# Altium schematic symbol library NSC Audio.SchLib: 691 symbols (part 3 of 18)
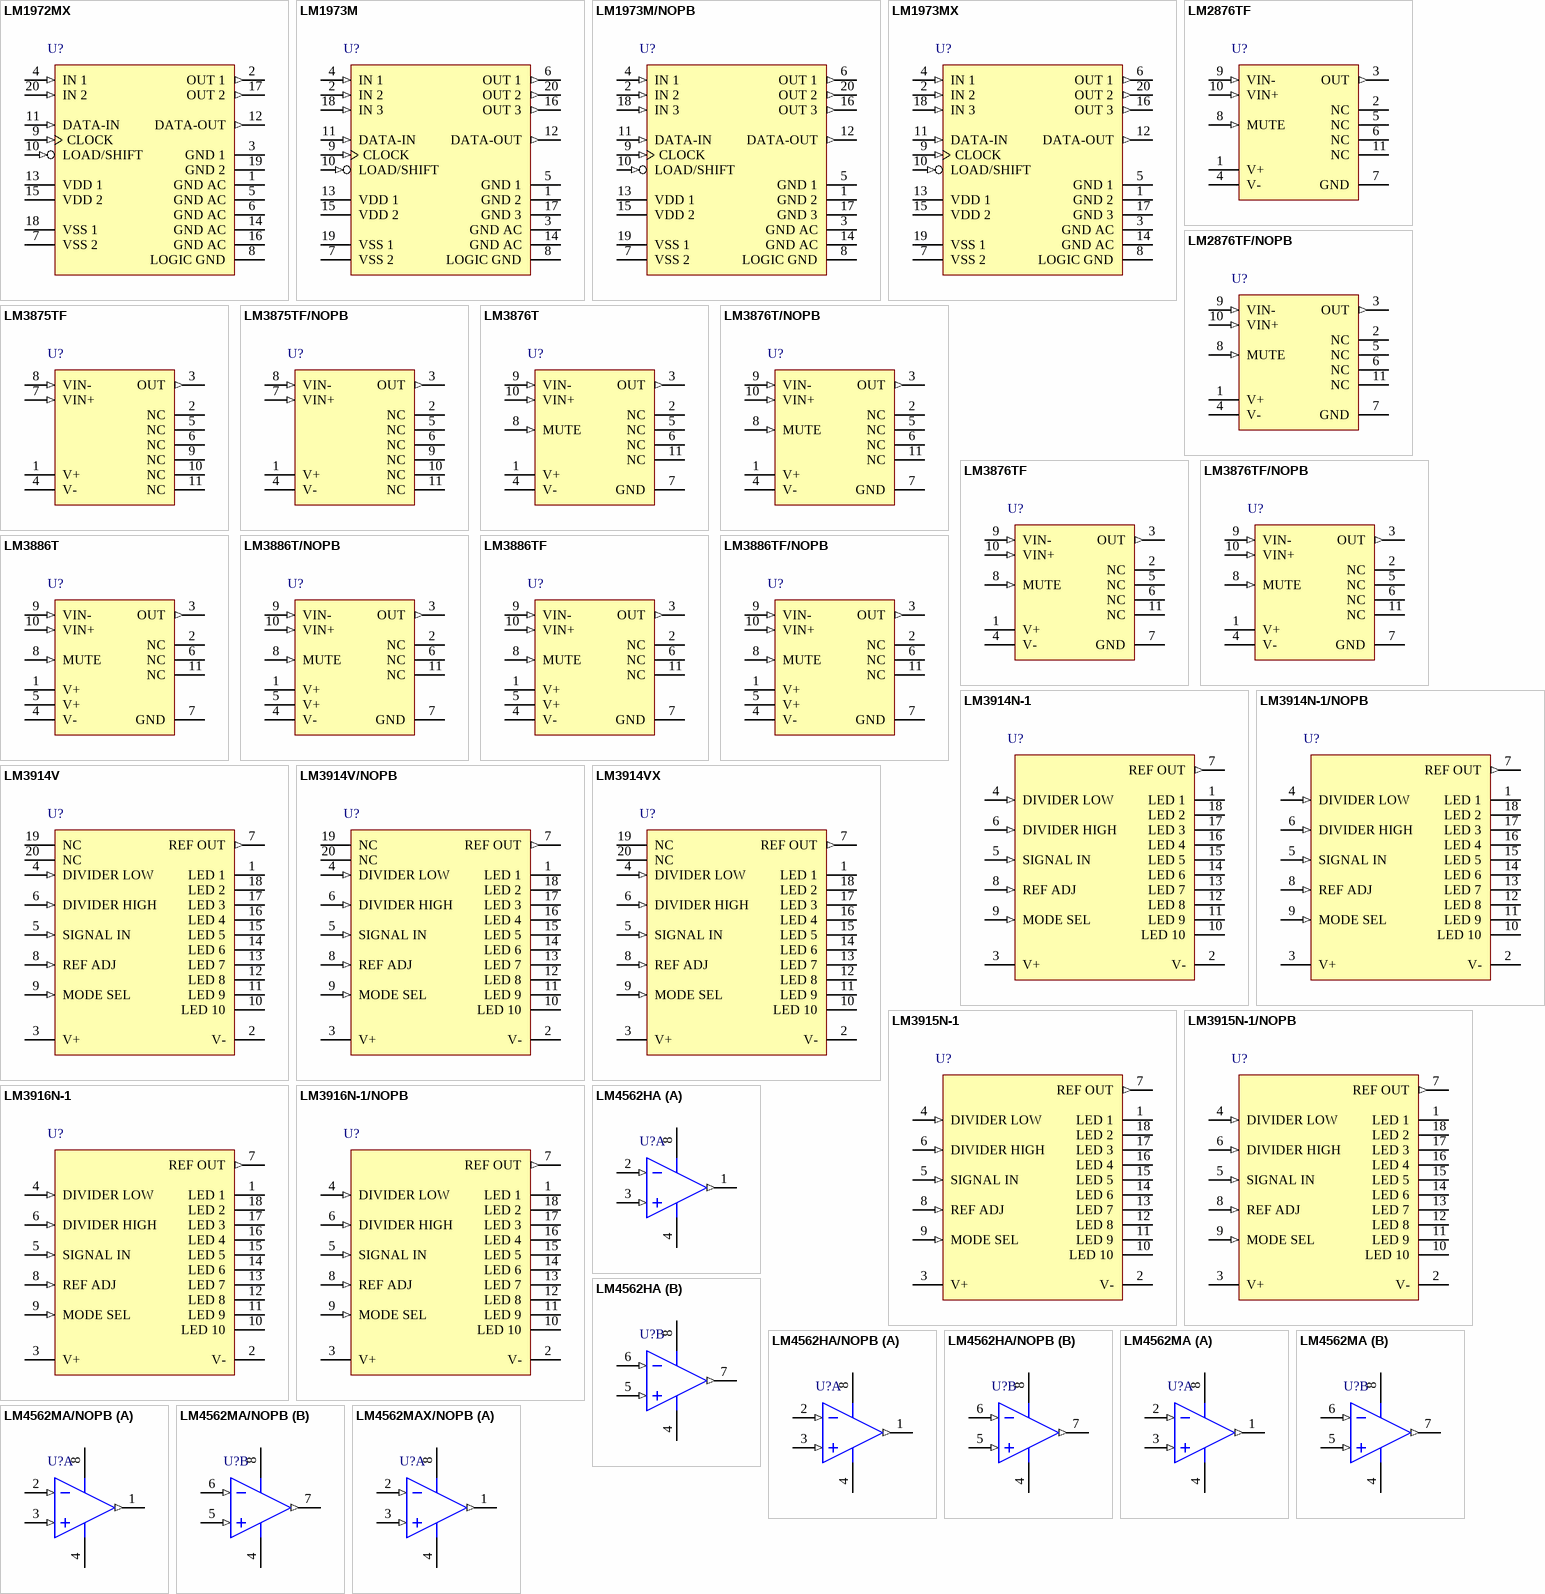
[diagram p29: symbols LM1972MX to LM4562MAX/NOPB]

## LM4562MA
designator U?
Dual High Performance, High Fidelity Audio Operational Amplifier, 8-pin Narrow SOIC; PartNumber: LM4562MA; Manufacturer: National Semiconductor; PackageTopMarking: NSZXTT*L4562*MA; PowerWise: Y; CompType: Audio IC; Published: 4-Dec-2008; LatestRevisionDate: 01-Mar-2010; LatestRevisionNote: Sch layout changed.; DatasheetVersion: Jan-2010; PackageVersion: revM, May-2009; PackageReference: M08A; Publisher: Altium Limited; PackageDescription: SOIC Narrow, 4.9 x 3.9 x 1.45mm, 8 Lead, 1.27mm Pitch; RoHS: Y; PinCount: 8; Code_JEDEC: MS-012-AA; Code_IPC: SOIC127P600-8; ComponentLink1Description: LM4562 Datasheet; ComponentLink1URL: http://www.national.com/ds/LM/LM4562.pdf; ComponentLink2Description: LM4562 Web Page; ComponentLink2URL: http://www.national.com/pf/LM/LM4562.html; ComponentLink3Description: M08A Package Page; ComponentLink3URL: http://www.national.com/packaging/folders/m08a.html
footprint M08A_N (SOIC, 8-Leads, Body 4.9x3.9mm, Pitch 1.27mm, IPC Medium Density)
footprint M08A_L (SOIC, 8-Leads, Body 4.9x3.9mm, Pitch 1.27mm, IPC High Density)
footprint M08A_M (SOIC, 8-Leads, Body 4.9x3.9mm, Pitch 1.27mm, IPC Low Density)
pins on every part: 4 V- (power), 8 V+ (power)
part A pins: 1 OUT A (out), 2 IN A (in), 3 IN A (in)
part B pins: 5 IN B (in), 6 IN B (in), 7 OUT B (out)

## LM4562MA/NOPB
designator U?
Dual High Performance, High Fidelity Audio Operational Amplifier, 8-pin Narrow SOIC, Pb-Free; PartNumber: LM4562MA/NOPB; Manufacturer: National Semiconductor; PackageTopMarking: NSZXTT*L4562*MA; PowerWise: Y; CompType: Audio IC; Published: 1-Mar-2010; DatasheetVersion: Jan-2010; PackageVersion: revM, May-2009; PackageReference: M08A; Publisher: Altium Limited; PackageDescription: SOIC Narrow, 4.9 x 3.9 x 1.45mm, 8 Lead, 1.27mm Pitch; Supplier 1: Digi-Key; Supplier Part Number 1: LM4562MA-ND; Supplier 2: Farnell; Supplier Part Number 2: 1685365; RoHS: Y; PinCount: 8; Code_JEDEC: MS-012-AA; Code_IPC: SOIC127P600-8; ComponentLink1Description: LM4562 Datasheet; ComponentLink1URL: http://www.national.com/ds/LM/LM4562.pdf; ComponentLink2Description: LM4562 Web Page; ComponentLink2URL: http://www.national.com/pf/LM/LM4562.html; ComponentLink3Description: M08A Package Page; ComponentLink3URL: http://www.national.com/packaging/folders/m08a.html
footprint M08A_N (SOIC, 8-Leads, Body 4.9x3.9mm, Pitch 1.27mm, IPC Medium Density)
footprint M08A_L (SOIC, 8-Leads, Body 4.9x3.9mm, Pitch 1.27mm, IPC High Density)
footprint M08A_M (SOIC, 8-Leads, Body 4.9x3.9mm, Pitch 1.27mm, IPC Low Density)
simulation model LME49860 (SUBCKT)
pins on every part: 4 V- (power), 8 V+ (power)
part A pins: 1 OUT A (out), 2 IN A (in), 3 IN A (in)
part B pins: 5 IN B (in), 6 IN B (in), 7 OUT B (out)

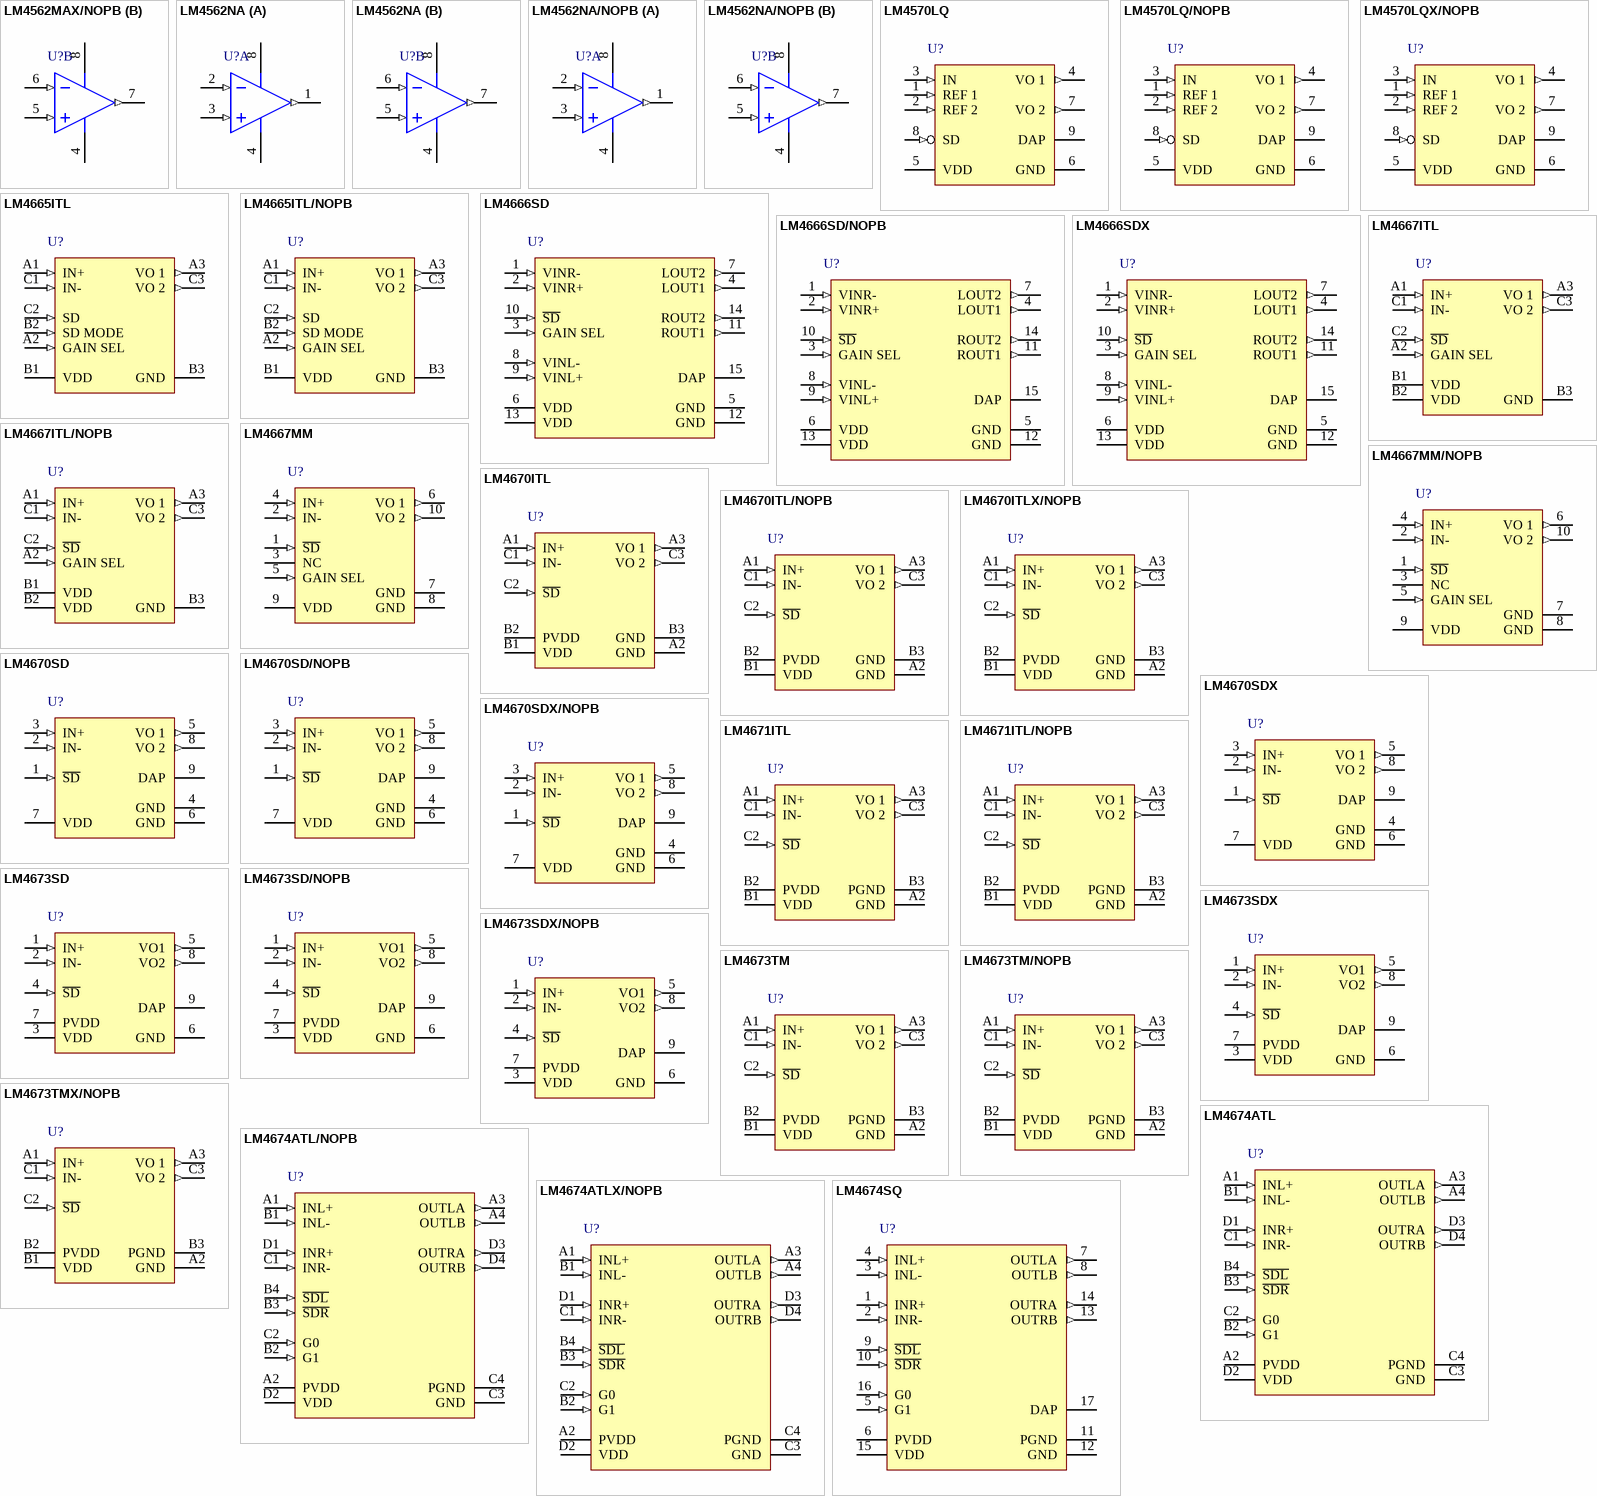
[diagram p3: symbols LM4562MAX/NOPB to LM4674SQ]

## LM4562MAX/NOPB
designator U?
Dual High Performance, High Fidelity Audio Operational Amplifier, 8-pin Narrow SOIC, Pb-Free; PartNumber: LM4562MAX/NOPB; Manufacturer: National Semiconductor; PackageTopMarking: NSZXTT*L4562*MA; PowerWise: Y; CompType: Audio IC; Published: 1-Mar-2010; DatasheetVersion: Jan-2010; PackageVersion: revM, May-2009; PackageReference: M08A; Publisher: Altium Limited; PackageDescription: SOIC Narrow, 4.9 x 3.9 x 1.45mm, 8 Lead, 1.27mm Pitch; Supplier 1: Digi-Key; Supplier Part Number 1: LM4562MAX-ND; RoHS: Y; PinCount: 8; Code_JEDEC: MS-012-AA; Code_IPC: SOIC127P600-8; ComponentLink1Description: LM4562 Datasheet; ComponentLink1URL: http://www.national.com/ds/LM/LM4562.pdf; ComponentLink2Description: LM4562 Web Page; ComponentLink2URL: http://www.national.com/pf/LM/LM4562.html; ComponentLink3Description: M08A Package Page; ComponentLink3URL: http://www.national.com/packaging/folders/m08a.html
footprint M08A_N (SOIC, 8-Leads, Body 4.9x3.9mm, Pitch 1.27mm, IPC Medium Density)
footprint M08A_L (SOIC, 8-Leads, Body 4.9x3.9mm, Pitch 1.27mm, IPC High Density)
footprint M08A_M (SOIC, 8-Leads, Body 4.9x3.9mm, Pitch 1.27mm, IPC Low Density)
simulation model LME49860 (SUBCKT)
pins on every part: 4 V- (power), 8 V+ (power)
part A pins: 1 OUT A (out), 2 IN A (in), 3 IN A (in)
part B pins: 5 IN B (in), 6 IN B (in), 7 OUT B (out)

## LM4562NA
designator U?
Dual High Performance, High Fidelity Audio Operational Amplifier, 8-pin MDIP; PartNumber: LM4562NA; Manufacturer: National Semiconductor; PackageTopMarking: NSUZXYTT*LM*4562NA; PowerWise: Y; CompType: Audio IC; Published: 4-Dec-2008; LatestRevisionDate: 01-Mar-2010; LatestRevisionNote: Sch layout changed.; DatasheetVersion: Jan-2010; PackageVersion: revG, May-2006; PackageReference: N08E; Publisher: Altium Limited; PackageDescription: MDIP, .365 x .250 x .130in, 8 Lead, .100in Pitch; RoHS: Y; PinCount: 8; Code_JEDEC: MS-001-BA; ComponentLink1Description: LM4562 Datasheet; ComponentLink1URL: http://www.national.com/ds/LM/LM4562.pdf; ComponentLink2Description: LM4562 Web Page; ComponentLink2URL: http://www.national.com/pf/LM/LM4562.html; ComponentLink3Description: N08E Package Page; ComponentLink3URL: http://www.national.com/packaging/folders/n08e.html
footprint N08E (DIP, 8-Leads, Row Spacing 7.62mm, Pitch 2.54mm, Body 9.91x6.35mm)
pins on every part: 4 V- (power), 8 V+ (power)
part A pins: 1 OUT A (out), 2 IN A (in), 3 IN A (in)
part B pins: 5 IN B (in), 6 IN B (in), 7 OUT B (out)

## LM4562NA/NOPB
designator U?
Dual High Performance, High Fidelity Audio Operational Amplifier, 8-pin MDIP, Pb-Free; PartNumber: LM4562NA/NOPB; Manufacturer: National Semiconductor; PackageTopMarking: NSUZXYTTE#*LM*4562NA; PowerWise: Y; CompType: Audio IC; Published: 1-Mar-2010; DatasheetVersion: Jan-2010; PackageVersion: revG, May-2006; PackageReference: N08E; Publisher: Altium Limited; PackageDescription: MDIP, .365 x .250 x .130in, 8 Lead, .100in Pitch; Supplier 1: Digi-Key; Supplier Part Number 1: LM4562NA-ND; Supplier 2: Farnell; Supplier Part Number 2: 1685366; RoHS: Y; PinCount: 8; Code_JEDEC: MS-001-BA; ComponentLink1Description: LM4562 Datasheet; ComponentLink1URL: http://www.national.com/ds/LM/LM4562.pdf; ComponentLink2Description: LM4562 Web Page; ComponentLink2URL: http://www.national.com/pf/LM/LM4562.html; ComponentLink3Description: N08E Package Page; ComponentLink3URL: http://www.national.com/packaging/folders/n08e.html
footprint N08E (DIP, 8-Leads, Row Spacing 7.62mm, Pitch 2.54mm, Body 9.91x6.35mm)
simulation model LME49860 (SUBCKT)
pins on every part: 4 V- (power), 8 V+ (power)
part A pins: 1 OUT A (out), 2 IN A (in), 3 IN A (in)
part B pins: 5 IN B (in), 6 IN B (in), 7 OUT B (out)

## LM4570LQ
designator U?
Single-Ended Input Motor Driver, 9-pin LLP; PartNumber: LM4570LQ; Manufacturer: National Semiconductor; PackageTopMarking: XTT*GC8; PowerWise: N; CompType: Audio IC; Published: 4-Dec-2008; DatasheetVersion: Jul-2009; PackageVersion: revB, Nov-2002; PackageReference: LQB08A; Publisher: Altium Limited; PackageDescription: LLP, Plastic, Quad, 2 x 2 x 0.75mm Body, 8 Lead, 0.65mm Pitch; RoHS: Y; PinCount: 8; ComponentLink1Description: LM4570 Datasheet; ComponentLink1URL: http://www.national.com/ds/LM/LM4570.pdf; ComponentLink2Description: LM4570 Web Page; ComponentLink2URL: http://www.national.com/pf/LM/LM4570.html; ComponentLink3Description: LQB08A Package Page; ComponentLink3URL: http://www.national.com/packaging/folders/lqb08a.html
footprint LQB08A (PQFN, 8-Leads, Body 2x2mm, Pitch 0.65mm, NSC Recommended)
pins: 1 REF 1 (in), 2 REF 2 (in), 3 IN (in), 4 VO 1 (out), 5 VDD (power), 6 GND (power), 7 VO 2 (out), 8 SD (in), 9 DAP (power)

## LM4570LQ/NOPB
designator U?
Single-Ended Input Motor Driver, 8-pin LLP, Pb-Free; PartNumber: LM4570LQ/NOPB; Manufacturer: National Semiconductor; PackageTopMarking: XTT*GC8; PowerWise: N; CompType: Audio IC; Published: 1-Mar-2010; DatasheetVersion: Jul-2009; PackageVersion: revB, Nov-2002; PackageReference: LQB08A; Publisher: Altium Limited; PackageDescription: LLP, Plastic, Quad, 2 x 2 x 0.75mm Body, 8 Lead, 0.65mm Pitch; Supplier 1: Digi-Key; Supplier Part Number 1: LM4570LQTR-ND; Supplier 2: Digi-Key; Supplier Part Number 2: LM4570LQCT-ND; Supplier 3: Digi-Key; Supplier Part Number 3: LM4570LQDKR-ND; RoHS: Y; PinCount: 8; ComponentLink1Description: LM4570 Datasheet; ComponentLink1URL: http://www.national.com/ds/LM/LM4570.pdf; ComponentLink2Description: LM4570 Web Page; ComponentLink2URL: http://www.national.com/pf/LM/LM4570.html; ComponentLink3Description: LQB08A Package Page; ComponentLink3URL: http://www.national.com/packaging/folders/lqb08a.html
footprint LQB08A (PQFN, 8-Leads, Body 2x2mm, Pitch 0.65mm, NSC Recommended)
pins: 1 REF 1 (in), 2 REF 2 (in), 3 IN (in), 4 VO 1 (out), 5 VDD (power), 6 GND (power), 7 VO 2 (out), 8 SD (in), 9 DAP (power)

## LM4570LQX/NOPB
designator U?
Single-Ended Input Motor Driver, 8-pin LLP, Pb-Free; PartNumber: LM4570LQX/NOPB; Manufacturer: National Semiconductor; PackageTopMarking: XTT*GC8; PowerWise: N; CompType: Audio IC; Published: 1-Mar-2010; DatasheetVersion: Jul-2009; PackageVersion: revB, Nov-2002; PackageReference: LQB08A; Publisher: Altium Limited; PackageDescription: LLP, Plastic, Quad, 2 x 2 x 0.75mm Body, 8 Lead, 0.65mm Pitch; Supplier 1: Digi-Key; Supplier Part Number 1: LM4570LQX-ND; RoHS: Y; PinCount: 8; ComponentLink1Description: LM4570 Datasheet; ComponentLink1URL: http://www.national.com/ds/LM/LM4570.pdf; ComponentLink2Description: LM4570 Web Page; ComponentLink2URL: http://www.national.com/pf/LM/LM4570.html; ComponentLink3Description: LQB08A Package Page; ComponentLink3URL: http://www.national.com/packaging/folders/lqb08a.html
footprint LQB08A (PQFN, 8-Leads, Body 2x2mm, Pitch 0.65mm, NSC Recommended)
pins: 1 REF 1 (in), 2 REF 2 (in), 3 IN (in), 4 VO 1 (out), 5 VDD (power), 6 GND (power), 7 VO 2 (out), 8 SD (in), 9 DAP (power)

## LM4665ITL
designator U?
Filterless High Efficiency 1W Switching Audio Amplifier, 9-pin Micro SMD; PartNumber: LM4665ITL; Manufacturer: National Semiconductor; PackageTopMarking: XVG*I A2; PowerWise: N; CompType: Audio IC; Published: 4-Dec-2008; DatasheetVersion: Dec-2002; PackageVersion: revC, Jan-2004; PackageReference: TLA09AAA; Publisher: Altium Limited; PackageDescription: Thin Micro SMD, 9 Bump (Large), 0.5mm Pitch; Supplier 1: Farnell; Supplier Part Number 1: 1286896; RoHS: Y; PinCount: 9; Code_JEDEC: MO-211-DD; ComponentLink1Description: LM4665 Datasheet; ComponentLink1URL: http://www.national.com/ds/LM/LM4665.pdf; ComponentLink2Description: LM4665 Web Page; ComponentLink2URL: http://www.national.com/pf/LM/LM4665.html; ComponentLink3Description: TLA09AAA Package Page; ComponentLink3URL: http://www.national.com/packaging/folders/tla09aaa.html
footprint TLA09AAA (Micro SMD, 9-Leads, Body 1.52x1.52mm, Pitch 0.5mm, NSC Recommended)
pins: A1 IN+ (in), A2 GAIN SEL (in), A3 VO 1 (out), B1 VDD (power), B2 SD MODE (in), B3 GND (power), C1 IN- (in), C2 SD (in), C3 VO 2 (out)

## LM4665ITL/NOPB
designator U?
Filterless High Efficiency 1W Switching Audio Amplifier, 9-pin Micro SMD, Pb-Free; PartNumber: LM4665ITL/NOPB; Manufacturer: National Semiconductor; PackageTopMarking: XVG*I A2; PowerWise: N; CompType: Audio IC; Published: 1-Mar-2010; DatasheetVersion: Dec-2002; PackageVersion: revC, Jan-2004; PackageReference: TLA09AAA; Publisher: Altium Limited; PackageDescription: Thin Micro SMD, 9 Bump (Large), 0.5mm Pitch; Supplier 1: Digi-Key; Supplier Part Number 1: LM4665ITLTR-ND; Supplier 2: Digi-Key; Supplier Part Number 2: LM4665ITLCT-ND; Supplier 3: Digi-Key; Supplier Part Number 3: LM4665ITLDKR-ND; RoHS: Y; PinCount: 9; Code_JEDEC: MO-211-DD; ComponentLink1Description: LM4665 Datasheet; ComponentLink1URL: http://www.national.com/ds/LM/LM4665.pdf; ComponentLink2Description: LM4665 Web Page; ComponentLink2URL: http://www.national.com/pf/LM/LM4665.html; ComponentLink3Description: TLA09AAA Package Page; ComponentLink3URL: http://www.national.com/packaging/folders/tla09aaa.html
footprint TLA09AAA (Micro SMD, 9-Leads, Body 1.52x1.52mm, Pitch 0.5mm, NSC Recommended)
pins: A1 IN+ (in), A2 GAIN SEL (in), A3 VO 1 (out), B1 VDD (power), B2 SD MODE (in), B3 GND (power), C1 IN- (in), C2 SD (in), C3 VO 2 (out)

## LM4666SD
designator U?
Filterless High Efficiency Stereo 1.2W Switching Audio Amplifier, 15-pin LLP; PartNumber: LM4666SD; Manufacturer: National Semiconductor; PackageTopMarking: ZXYTTE#*L4666; PowerWise: N; CompType: Audio IC; Published: 4-Dec-2008; DatasheetVersion: May-2004; PackageVersion: revA, Jun-2003; PackageReference: SDA14A; Publisher: Altium Limited; PackageDescription: LLP, Plastic, Dual, 4 x 3 x 0.8mm Body, 14 Lead, 0.5mm Pitch, No Pullback; Supplier 1: Digi-Key; Supplier Part Number 1: LM4666SDTR-ND; Supplier 2: Digi-Key; Supplier Part Number 2: LM4666SDCT-ND; Supplier 3: Digi-Key; Supplier Part Number 3: LM4666SDDKR-ND; RoHS: N; PinCount: 14; ComponentLink1Description: LM4666 Datasheet; ComponentLink1URL: http://www.national.com/ds/LM/LM4666.pdf; ComponentLink2Description: LM4666 Web Page; ComponentLink2URL: http://www.national.com/pf/LM/LM4666.html; ComponentLink3Description: SDA14A Package Page; ComponentLink3URL: http://www.national.com/packaging/folders/sda14a.html
footprint SDA14A (SON, 14-Leads, Body 4x3mm, Pitch 0.5mm, NSC Recommended)
pins: 1 VINR- (in), 2 VINR+ (in), 3 GAIN SEL (in), 4 LOUT1 (out), 5 GND (power), 6 VDD (power), 7 LOUT2 (out), 8 VINL- (in), 9 VINL+ (in), 10 ~{SD} (in), 11 ROUT1 (out), 12 GND (power), 13 VDD (power), 14 ROUT2 (out), 15 DAP (power)

## LM4666SD/NOPB
designator U?
Filterless High Efficiency Stereo 1.2W Switching Audio Amplifier, 14-pin LLP, Pb-Free; PartNumber: LM4666SD/NOPB; Manufacturer: National Semiconductor; PackageTopMarking: ZXYTTE#*L4666; PowerWise: N; CompType: Audio IC; Published: 1-Mar-2010; DatasheetVersion: May-2004; PackageVersion: revA, Jun-2003; PackageReference: SDA14A; Publisher: Altium Limited; PackageDescription: LLP, Plastic, Dual, 4 x 3 x 0.8mm Body, 14 Lead, 0.5mm Pitch, No Pullback; RoHS: Y; PinCount: 14; ComponentLink1Description: LM4666 Datasheet; ComponentLink1URL: http://www.national.com/ds/LM/LM4666.pdf; ComponentLink2Description: LM4666 Web Page; ComponentLink2URL: http://www.national.com/pf/LM/LM4666.html; ComponentLink3Description: SDA14A Package Page; ComponentLink3URL: http://www.national.com/packaging/folders/sda14a.html
footprint SDA14A (SON, 14-Leads, Body 4x3mm, Pitch 0.5mm, NSC Recommended)
pins: 1 VINR- (in), 2 VINR+ (in), 3 GAIN SEL (in), 4 LOUT1 (out), 5 GND (power), 6 VDD (power), 7 LOUT2 (out), 8 VINL- (in), 9 VINL+ (in), 10 ~{SD} (in), 11 ROUT1 (out), 12 GND (power), 13 VDD (power), 14 ROUT2 (out), 15 DAP (power)

## LM4666SDX
designator U?
Filterless High Efficiency Stereo 1.2W Switching Audio Amplifier, 14-pin LLP; PartNumber: LM4666SDX; Manufacturer: National Semiconductor; PowerWise: N; CompType: Audio IC; Published: 1-Mar-2010; DatasheetVersion: May-2004; PackageVersion: revA, Jun-2003; PackageReference: SDA14A; Publisher: Altium Limited; PackageDescription: LLP, Plastic, Dual, 4 x 3 x 0.8mm Body, 14 Lead, 0.5mm Pitch, No Pullback; RoHS: N; PinCount: 14; ComponentLink1Description: LM4666 Datasheet; ComponentLink1URL: http://www.national.com/ds/LM/LM4666.pdf; ComponentLink2Description: LM4666 Web Page; ComponentLink2URL: http://www.national.com/pf/LM/LM4666.html; ComponentLink3Description: SDA14A Package Page; ComponentLink3URL: http://www.national.com/packaging/folders/sda14a.html
footprint SDA14A (SON, 14-Leads, Body 4x3mm, Pitch 0.5mm, NSC Recommended)
pins: 1 VINR- (in), 2 VINR+ (in), 3 GAIN SEL (in), 4 LOUT1 (out), 5 GND (power), 6 VDD (power), 7 LOUT2 (out), 8 VINL- (in), 9 VINL+ (in), 10 ~{SD} (in), 11 ROUT1 (out), 12 GND (power), 13 VDD (power), 14 ROUT2 (out), 15 DAP (power)

## LM4667ITL
designator U?
Filterless High Efficiency 1.3W Switching Audio Amplifier, 9-pin Micro SMD; PartNumber: LM4667ITL; Manufacturer: National Semiconductor; PackageTopMarking: XVG*I B4; PowerWise: N; CompType: Audio IC; Published: 4-Dec-2008; DatasheetVersion: Sep-2004; PackageVersion: revC, Jan-2004; PackageReference: TLA09AAA; Publisher: Altium Limited; PackageDescription: Thin Micro SMD, 9 Bump (Large), 0.5mm Pitch; Supplier 1: Farnell; Supplier Part Number 1: 8238871; RoHS: N; PinCount: 9; Code_JEDEC: MO-211-DD; ComponentLink1Description: LM4667 Datasheet; ComponentLink1URL: http://www.national.com/ds/LM/LM4667.pdf; ComponentLink2Description: LM4667 Web Page; ComponentLink2URL: http://www.national.com/pf/LM/LM4667.html; ComponentLink3Description: TLA09AAA Package Page; ComponentLink3URL: http://www.national.com/packaging/folders/tla09aaa.html
footprint TLA09AAA (Micro SMD, 9-Leads, Body 1.52x1.52mm, Pitch 0.5mm, NSC Recommended)
pins: A1 IN+ (in), A2 GAIN SEL (in), A3 VO 1 (out), B1 VDD (power), B2 VDD (power), B3 GND (power), C1 IN- (in), C2 ~{SD} (in), C3 VO 2 (out)

## LM4667ITL/NOPB
designator U?
Filterless High Efficiency 1.3W Switching Audio Amplifier, 9-pin Micro SMD, Pb-Free; PartNumber: LM4667ITL/NOPB; Manufacturer: National Semiconductor; PackageTopMarking: XVG*I B4; PowerWise: N; CompType: Audio IC; Published: 1-Mar-2010; DatasheetVersion: Sep-2004; PackageVersion: revC, Jan-2004; PackageReference: TLA09AAA; Publisher: Altium Limited; PackageDescription: Thin Micro SMD, 9 Bump (Large), 0.5mm Pitch; Supplier 1: Digi-Key; Supplier Part Number 1: LM4667ITLTR-ND; Supplier 2: Digi-Key; Supplier Part Number 2: LM4667ITLCT-ND; Supplier 3: Digi-Key; Supplier Part Number 3: LM4667ITLDKR-ND; RoHS: Y; PinCount: 9; Code_JEDEC: MO-211-DD; ComponentLink1Description: LM4667 Datasheet; ComponentLink1URL: http://www.national.com/ds/LM/LM4667.pdf; ComponentLink2Description: LM4667 Web Page; ComponentLink2URL: http://www.national.com/pf/LM/LM4667.html; ComponentLink3Description: TLA09AAA Package Page; ComponentLink3URL: http://www.national.com/packaging/folders/tla09aaa.html
footprint TLA09AAA (Micro SMD, 9-Leads, Body 1.52x1.52mm, Pitch 0.5mm, NSC Recommended)
pins: A1 IN+ (in), A2 GAIN SEL (in), A3 VO 1 (out), B1 VDD (power), B2 VDD (power), B3 GND (power), C1 IN- (in), C2 ~{SD} (in), C3 VO 2 (out)

## LM4667MM
designator U?
Filterless High Efficiency 1.3W Switching Audio Amplifier, 10-pin MSOP; PartNumber: LM4667MM; Manufacturer: National Semiconductor; PackageTopMarking: ZXTT*GA6; PowerWise: N; CompType: Audio IC; Published: 4-Dec-2008; DatasheetVersion: Sep-2004; PackageVersion: revB, Jul-2003; PackageReference: MUB10A; Publisher: Altium Limited; PackageDescription: Mini-SO, Molded, .118 x .118 x .034in Body, 10 Lead, .0197in Pitch; Supplier 1: Farnell; Supplier Part Number 1: 8181080; RoHS: N; PinCount: 10; Code_JEDEC: MO-187-BA; ComponentLink1Description: LM4667 Datasheet; ComponentLink1URL: http://www.national.com/ds/LM/LM4667.pdf; ComponentLink2Description: LM4667 Web Page; ComponentLink2URL: http://www.national.com/pf/LM/LM4667.html; ComponentLink3Description: MUB10A Package Page; ComponentLink3URL: http://www.national.com/packaging/folders/mub10a.html
footprint MUB10A_N (TSSOP, 10-Leads, Body 3x3mm, Pitch 0.5mm, IPC Medium Density)
footprint MUB10A_L (TSSOP, 10-Leads, Body 3x3mm, Pitch 0.5mm, IPC High Density)
footprint MUB10A_M (TSSOP, 10-Leads, Body 3x3mm, Pitch 0.5mm, IPC Low Density)
pins: 1 ~{SD} (in), 2 IN- (in), 3 NC, 4 IN+ (in), 5 GAIN SEL (in), 6 VO 1 (out), 7 GND (power), 8 GND (power), 9 VDD (power), 10 VO 2 (out)

## LM4667MM/NOPB
designator U?
Filterless High Efficiency 1.3W Switching Audio Amplifier, 10-pin Mini SOIC, Pb-Free; PartNumber: LM4667MM/NOPB; Manufacturer: National Semiconductor; PackageTopMarking: ZXTT*GA6; PowerWise: N; CompType: Audio IC; Published: 1-Mar-2010; DatasheetVersion: Sep-2004; PackageVersion: revB, Jul-2003; PackageReference: MUB10A; Publisher: Altium Limited; PackageDescription: Mini-SO, Molded, .118 x .118 x .034in Body, 10 Lead, .0197in Pitch; Supplier 1: Digi-Key; Supplier Part Number 1: LM4667MMTR-ND; Supplier 2: Digi-Key; Supplier Part Number 2: LM4667MMCT-ND; Supplier 3: Digi-Key; Supplier Part Number 3: LM4667MMDKR-ND; RoHS: Y; PinCount: 10; Code_JEDEC: MO-187-BA; ComponentLink1Description: LM4667 Datasheet; ComponentLink1URL: http://www.national.com/ds/LM/LM4667.pdf; ComponentLink2Description: LM4667 Web Page; ComponentLink2URL: http://www.national.com/pf/LM/LM4667.html; ComponentLink3Description: MUB10A Package Page; ComponentLink3URL: http://www.national.com/packaging/folders/mub10a.html
footprint MUB10A_N (TSSOP, 10-Leads, Body 3x3mm, Pitch 0.5mm, IPC Medium Density)
footprint MUB10A_L (TSSOP, 10-Leads, Body 3x3mm, Pitch 0.5mm, IPC High Density)
footprint MUB10A_M (TSSOP, 10-Leads, Body 3x3mm, Pitch 0.5mm, IPC Low Density)
pins: 1 ~{SD} (in), 2 IN- (in), 3 NC, 4 IN+ (in), 5 GAIN SEL (in), 6 VO 1 (out), 7 GND (power), 8 GND (power), 9 VDD (power), 10 VO 2 (out)

## LM4670ITL
designator U?
Filterless High Efficiency 3W Switching Audio Amplifier, 9-pin Micro SMD; PartNumber: LM4670ITL; Manufacturer: National Semiconductor; PackageTopMarking: XVG*I E6; PowerWise: N; CompType: Audio IC; Published: 4-Dec-2008; DatasheetVersion: Jul-2006; PackageVersion: revC, Jan-2004; PackageReference: TLA09ZZA; Publisher: Altium Limited; PackageDescription: Thin Micro SMD, 9 Bump (Large), 0.5mm Pitch; Supplier 1: Digi-Key; Supplier Part Number 1: LM4670ITL-ND; Supplier 2: Farnell; Supplier Part Number 2: 1286809; RoHS: Y; PinCount: 9; Code_JEDEC: MO-211-DD; ComponentLink1Description: LM4670 Datasheet; ComponentLink1URL: http://www.national.com/ds/LM/LM4670.pdf; ComponentLink2Description: LM4670 Web Page; ComponentLink2URL: http://www.national.com/pf/LM/LM4670.html; ComponentLink3Description: TLA09ZZA Package Page; ComponentLink3URL: http://www.national.com/packaging/folders/tla09zza.html
footprint TLA09ZZA (Micro SMD, 9-Leads, Body 1.47x1.47mm, Pitch 0.5mm, NSC Recommended)
pins: A1 IN+ (in), A2 GND (power), A3 VO 1 (out), B1 VDD (power), B2 PVDD (power), B3 GND (power), C1 IN- (in), C2 ~{SD} (in), C3 VO 2 (out)

## LM4670ITL/NOPB
designator U?
Filterless High Efficiency 3W Switching Audio Amplifier, 9-pin Micro SMD, Pb-Free; PartNumber: LM4670ITL/NOPB; Manufacturer: National Semiconductor; PackageTopMarking: XVG*I E6; PowerWise: N; CompType: Audio IC; Published: 1-Mar-2010; DatasheetVersion: Jul-2006; PackageVersion: revC, Jan-2004; PackageReference: TLA09ZZA; Publisher: Altium Limited; PackageDescription: Thin Micro SMD, 9 Bump (Large), 0.5mm Pitch; Supplier 1: Digi-Key; Supplier Part Number 1: LM4670ITL/NOPB-ND; RoHS: Y; PinCount: 9; Code_JEDEC: MO-211-DD; ComponentLink1Description: LM4670 Datasheet; ComponentLink1URL: http://www.national.com/ds/LM/LM4670.pdf; ComponentLink2Description: LM4670 Web Page; ComponentLink2URL: http://www.national.com/pf/LM/LM4670.html; ComponentLink3Description: TLA09ZZA Package Page; ComponentLink3URL: http://www.national.com/packaging/folders/tla09zza.html
footprint TLA09ZZA (Micro SMD, 9-Leads, Body 1.47x1.47mm, Pitch 0.5mm, NSC Recommended)
pins: A1 IN+ (in), A2 GND (power), A3 VO 1 (out), B1 VDD (power), B2 PVDD (power), B3 GND (power), C1 IN- (in), C2 ~{SD} (in), C3 VO 2 (out)

## LM4670ITLX/NOPB
designator U?
Filterless High Efficiency 3W Switching Audio Amplifier, 9-pin Micro SMD, Pb-Free; PartNumber: LM4670ITLX/NOPB; Manufacturer: National Semiconductor; PackageTopMarking: XVG*I E6; PowerWise: N; CompType: Audio IC; Published: 1-Mar-2010; DatasheetVersion: Jul-2006; PackageVersion: revC, Jan-2004; PackageReference: TLA09ZZA; Publisher: Altium Limited; PackageDescription: Thin Micro SMD, 9 Bump (Large), 0.5mm Pitch; Supplier 1: Digi-Key; Supplier Part Number 1: LM4670ITLX/NOPBTR-ND; Supplier 2: Digi-Key; Supplier Part Number 2: LM4670ITLX/NOPBCT-ND; RoHS: Y; PinCount: 9; Code_JEDEC: MO-211-DD; ComponentLink1Description: LM4670 Datasheet; ComponentLink1URL: http://www.national.com/ds/LM/LM4670.pdf; ComponentLink2Description: LM4670 Web Page; ComponentLink2URL: http://www.national.com/pf/LM/LM4670.html; ComponentLink3Description: TLA09ZZA Package Page; ComponentLink3URL: http://www.national.com/packaging/folders/tla09zza.html
footprint TLA09ZZA (Micro SMD, 9-Leads, Body 1.47x1.47mm, Pitch 0.5mm, NSC Recommended)
pins: A1 IN+ (in), A2 GND (power), A3 VO 1 (out), B1 VDD (power), B2 PVDD (power), B3 GND (power), C1 IN- (in), C2 ~{SD} (in), C3 VO 2 (out)

## LM4670SD
designator U?
Filterless High Efficiency 3W Switching Audio Amplifier, 9-pin LLP; PartNumber: LM4670SD; Manufacturer: National Semiconductor; PackageTopMarking: ZXYTT*L4670; PowerWise: N; CompType: Audio IC; Published: 4-Dec-2008; DatasheetVersion: Jul-2006; PackageVersion: revA, Aug-2003; PackageReference: SDA08A; Publisher: Altium Limited; PackageDescription: LLP, Plastic, Dual, 3 x 3 x 0.8mm Body, 8 Lead, 0.5mm Pitch, No Pullback; Supplier 1: Farnell; Supplier Part Number 1: 1312668; RoHS: N; PinCount: 8; ComponentLink1Description: LM4670 Datasheet; ComponentLink1URL: http://www.national.com/ds/LM/LM4670.pdf; ComponentLink2Description: LM4670 Web Page; ComponentLink2URL: http://www.national.com/pf/LM/LM4670.html; ComponentLink3Description: SDA08A Package Page; ComponentLink3URL: http://www.national.com/packaging/folders/sda08a.html
footprint SDA08A (SON, 8-Leads, Body 3x3mm, Pitch 0.5mm, NSC Recommended)
pins: 1 ~{SD} (in), 2 IN- (in), 3 IN+ (in), 4 GND (power), 5 VO 1 (out), 6 GND (power), 7 VDD (power), 8 VO 2 (out), 9 DAP (power)

## LM4670SD/NOPB
designator U?
Filterless High Efficiency 3W Switching Audio Amplifier, 8-pin LLP, Pb-Free; PartNumber: LM4670SD/NOPB; Manufacturer: National Semiconductor; PackageTopMarking: ZXYTT*L4670; PowerWise: N; CompType: Audio IC; Published: 1-Mar-2010; DatasheetVersion: Jul-2006; PackageVersion: revA, Aug-2003; PackageReference: SDA08A; Publisher: Altium Limited; PackageDescription: LLP, Plastic, Dual, 3 x 3 x 0.8mm Body, 8 Lead, 0.5mm Pitch, No Pullback; Supplier 1: Digi-Key; Supplier Part Number 1: LM4670SD-ND; RoHS: Y; PinCount: 8; ComponentLink1Description: LM4670 Datasheet; ComponentLink1URL: http://www.national.com/ds/LM/LM4670.pdf; ComponentLink2Description: LM4670 Web Page; ComponentLink2URL: http://www.national.com/pf/LM/LM4670.html; ComponentLink3Description: SDA08A Package Page; ComponentLink3URL: http://www.national.com/packaging/folders/sda08a.html
footprint SDA08A (SON, 8-Leads, Body 3x3mm, Pitch 0.5mm, NSC Recommended)
pins: 1 ~{SD} (in), 2 IN- (in), 3 IN+ (in), 4 GND (power), 5 VO 1 (out), 6 GND (power), 7 VDD (power), 8 VO 2 (out), 9 DAP (power)

## LM4670SDX
designator U?
Filterless High Efficiency 3W Switching Audio Amplifier, 8-pin LLP; PartNumber: LM4670SDX; Manufacturer: National Semiconductor; PackageTopMarking: ZXYTT*L4670; PowerWise: N; CompType: Audio IC; Published: 1-Mar-2010; DatasheetVersion: Jul-2006; PackageVersion: revA, Aug-2003; PackageReference: SDA08A; Publisher: Altium Limited; PackageDescription: LLP, Plastic, Dual, 3 x 3 x 0.8mm Body, 8 Lead, 0.5mm Pitch, No Pullback; RoHS: N; PinCount: 8; ComponentLink1Description: LM4670 Datasheet; ComponentLink1URL: http://www.national.com/ds/LM/LM4670.pdf; ComponentLink2Description: LM4670 Web Page; ComponentLink2URL: http://www.national.com/pf/LM/LM4670.html; ComponentLink3Description: SDA08A Package Page; ComponentLink3URL: http://www.national.com/packaging/folders/sda08a.html
footprint SDA08A (SON, 8-Leads, Body 3x3mm, Pitch 0.5mm, NSC Recommended)
pins: 1 ~{SD} (in), 2 IN- (in), 3 IN+ (in), 4 GND (power), 5 VO 1 (out), 6 GND (power), 7 VDD (power), 8 VO 2 (out), 9 DAP (power)

## LM4670SDX/NOPB
designator U?
Filterless High Efficiency 3W Switching Audio Amplifier, 8-pin LLP, Pb-Free; PartNumber: LM4670SDX/NOPB; Manufacturer: National Semiconductor; PackageTopMarking: ZXYTT*L4670; PowerWise: N; CompType: Audio IC; Published: 1-Mar-2010; DatasheetVersion: Jul-2006; PackageVersion: revA, Aug-2003; PackageReference: SDA08A; Publisher: Altium Limited; PackageDescription: LLP, Plastic, Dual, 3 x 3 x 0.8mm Body, 8 Lead, 0.5mm Pitch, No Pullback; Supplier 1: Digi-Key; Supplier Part Number 1: LM4670SDX-ND; RoHS: Y; PinCount: 8; ComponentLink1Description: LM4670 Datasheet; ComponentLink1URL: http://www.national.com/ds/LM/LM4670.pdf; ComponentLink2Description: LM4670 Web Page; ComponentLink2URL: http://www.national.com/pf/LM/LM4670.html; ComponentLink3Description: SDA08A Package Page; ComponentLink3URL: http://www.national.com/packaging/folders/sda08a.html
footprint SDA08A (SON, 8-Leads, Body 3x3mm, Pitch 0.5mm, NSC Recommended)
pins: 1 ~{SD} (in), 2 IN- (in), 3 IN+ (in), 4 GND (power), 5 VO 1 (out), 6 GND (power), 7 VDD (power), 8 VO 2 (out), 9 DAP (power)

## LM4671ITL
designator U?
Filterless High Efficiency 2.5W Switching Audio Amplifier, 9-pin Micro SMD; PartNumber: LM4671ITL; Manufacturer: National Semiconductor; PackageTopMarking: XVG*I E7; PowerWise: N; CompType: Audio IC; Published: 4-Dec-2008; DatasheetVersion: Mar-2008; PackageVersion: revC, Jan-2004; PackageReference: TLA09AAA; Publisher: Altium Limited; PackageDescription: Thin Micro SMD, 9 Bump (Large), 0.5mm Pitch; Supplier 1: Farnell; Supplier Part Number 1: 1008016; RoHS: Y; PinCount: 9; Code_JEDEC: MO-211-DD; ComponentLink1Description: LM4671 Datasheet; ComponentLink1URL: http://www.national.com/ds/LM/LM4671.pdf; ComponentLink2Description: LM4671 Web Page; ComponentLink2URL: http://www.national.com/pf/LM/LM4671.html; ComponentLink3Description: TLA09AAA Package Page; ComponentLink3URL: http://www.national.com/packaging/folders/tla09aaa.html
footprint TLA09AAA (Micro SMD, 9-Leads, Body 1.52x1.52mm, Pitch 0.5mm, NSC Recommended)
pins: A1 IN+ (in), A2 GND (power), A3 VO 1 (out), B1 VDD (power), B2 PVDD (power), B3 PGND (power), C1 IN- (in), C2 ~{SD} (in), C3 VO 2 (out)

## LM4671ITL/NOPB
designator U?
Filterless High Efficiency 2.5W Switching Audio Amplifier, 9-pin Micro SMD, Pb-Free; PartNumber: LM4671ITL/NOPB; Manufacturer: National Semiconductor; PackageTopMarking: XVG*I E7; PowerWise: N; CompType: Audio IC; Published: 1-Mar-2010; DatasheetVersion: Mar-2008; PackageVersion: revC, Jan-2004; PackageReference: TLA09AAA; Publisher: Altium Limited; PackageDescription: Thin Micro SMD, 9 Bump (Large), 0.5mm Pitch; Supplier 1: Digi-Key; Supplier Part Number 1: LM4671ITL-ND; RoHS: Y; PinCount: 9; Code_JEDEC: MO-211-DD; ComponentLink1Description: LM4671 Datasheet; ComponentLink1URL: http://www.national.com/ds/LM/LM4671.pdf; ComponentLink2Description: LM4671 Web Page; ComponentLink2URL: http://www.national.com/pf/LM/LM4671.html; ComponentLink3Description: TLA09AAA Package Page; ComponentLink3URL: http://www.national.com/packaging/folders/tla09aaa.html
footprint TLA09AAA (Micro SMD, 9-Leads, Body 1.52x1.52mm, Pitch 0.5mm, NSC Recommended)
pins: A1 IN+ (in), A2 GND (power), A3 VO 1 (out), B1 VDD (power), B2 PVDD (power), B3 PGND (power), C1 IN- (in), C2 ~{SD} (in), C3 VO 2 (out)

## LM4673SD
designator U?
Filterless, 2.65W, Mono, Class D Audio Power Amplifier, 9-pin LLP; PartNumber: LM4673SD; Manufacturer: National Semiconductor; PackageTopMarking: ZXYTT*L4673; PowerWise: Y; CompType: Audio IC; Published: 4-Dec-2008; DatasheetVersion: Nov-2007; PackageVersion: revA, Aug-2003; PackageReference: SDA08A; Publisher: Altium Limited; PackageDescription: LLP, Plastic, Dual, 3 x 3 x 0.8mm Body, 8 Lead, 0.5mm Pitch, No Pullback; Supplier 1: Farnell; Supplier Part Number 1: 1312767; RoHS: N; PinCount: 8; ComponentLink1Description: LM4673 Datasheet; ComponentLink1URL: http://www.national.com/ds/LM/LM4673.pdf; ComponentLink2Description: LM4673 Web Page; ComponentLink2URL: http://www.national.com/pf/LM/LM4673.html; ComponentLink3Description: SDA08A Package Page; ComponentLink3URL: http://www.national.com/packaging/folders/sda08a.html
footprint SDA08A (SON, 8-Leads, Body 3x3mm, Pitch 0.5mm, NSC Recommended)
pins: 1 IN+ (in), 2 IN- (in), 3 VDD (power), 4 ~{SD} (in), 5 VO1 (out), 6 GND (power), 7 PVDD (power), 8 VO2 (out), 9 DAP (power)

## LM4673SD/NOPB
designator U?
Filterless, 2.65W, Mono, Class D Audio Power Amplifier, 8-pin LLP, Pb-Free; PartNumber: LM4673SD/NOPB; Manufacturer: National Semiconductor; PackageTopMarking: ZXYTT*L4673; PowerWise: Y; CompType: Audio IC; Published: 1-Mar-2010; DatasheetVersion: Nov-2007; PackageVersion: revA, Aug-2003; PackageReference: SDA08A; Publisher: Altium Limited; PackageDescription: LLP, Plastic, Dual, 3 x 3 x 0.8mm Body, 8 Lead, 0.5mm Pitch, No Pullback; Supplier 1: Digi-Key; Supplier Part Number 1: LM4673SDTR-ND; Supplier 2: Digi-Key; Supplier Part Number 2: LM4673SDCT-ND; Supplier 3: Digi-Key; Supplier Part Number 3: LM4673SDDKR-ND; Supplier 4: Farnell; Supplier Part Number 4: 1694397; RoHS: Y; PinCount: 8; ComponentLink1Description: LM4673 Datasheet; ComponentLink1URL: http://www.national.com/ds/LM/LM4673.pdf; ComponentLink2Description: LM4673 Web Page; ComponentLink2URL: http://www.national.com/pf/LM/LM4673.html; ComponentLink3Description: SDA08A Package Page; ComponentLink3URL: http://www.national.com/packaging/folders/sda08a.html
footprint SDA08A (SON, 8-Leads, Body 3x3mm, Pitch 0.5mm, NSC Recommended)
pins: 1 IN+ (in), 2 IN- (in), 3 VDD (power), 4 ~{SD} (in), 5 VO1 (out), 6 GND (power), 7 PVDD (power), 8 VO2 (out), 9 DAP (power)

## LM4673SDX
designator U?
Filterless, 2.65W, Mono, Class D Audio Power Amplifier, 8-pin LLP; PartNumber: LM4673SDX; Manufacturer: National Semiconductor; PackageTopMarking: ZXYTT*L4673; PowerWise: Y; CompType: Audio IC; Published: 1-Mar-2010; DatasheetVersion: Nov-2007; PackageVersion: revA, Aug-2003; PackageReference: SDA08A; Publisher: Altium Limited; PackageDescription: LLP, Plastic, Dual, 3 x 3 x 0.8mm Body, 8 Lead, 0.5mm Pitch, No Pullback; RoHS: N; PinCount: 8; ComponentLink1Description: LM4673 Datasheet; ComponentLink1URL: http://www.national.com/ds/LM/LM4673.pdf; ComponentLink2Description: LM4673 Web Page; ComponentLink2URL: http://www.national.com/pf/LM/LM4673.html; ComponentLink3Description: SDA08A Package Page; ComponentLink3URL: http://www.national.com/packaging/folders/sda08a.html
footprint SDA08A (SON, 8-Leads, Body 3x3mm, Pitch 0.5mm, NSC Recommended)
pins: 1 IN+ (in), 2 IN- (in), 3 VDD (power), 4 ~{SD} (in), 5 VO1 (out), 6 GND (power), 7 PVDD (power), 8 VO2 (out), 9 DAP (power)

## LM4673SDX/NOPB
designator U?
Filterless, 2.65W, Mono, Class D Audio Power Amplifier, 8-pin LLP, Pb-Free; PartNumber: LM4673SDX/NOPB; Manufacturer: National Semiconductor; PackageTopMarking: ZXYTT*L4673; PowerWise: Y; CompType: Audio IC; Published: 1-Mar-2010; DatasheetVersion: Nov-2007; PackageVersion: revA, Aug-2003; PackageReference: SDA08A; Publisher: Altium Limited; PackageDescription: LLP, Plastic, Dual, 3 x 3 x 0.8mm Body, 8 Lead, 0.5mm Pitch, No Pullback; Supplier 1: Digi-Key; Supplier Part Number 1: LM4673SDX-ND; RoHS: Y; PinCount: 8; ComponentLink1Description: LM4673 Datasheet; ComponentLink1URL: http://www.national.com/ds/LM/LM4673.pdf; ComponentLink2Description: LM4673 Web Page; ComponentLink2URL: http://www.national.com/pf/LM/LM4673.html; ComponentLink3Description: SDA08A Package Page; ComponentLink3URL: http://www.national.com/packaging/folders/sda08a.html
footprint SDA08A (SON, 8-Leads, Body 3x3mm, Pitch 0.5mm, NSC Recommended)
pins: 1 IN+ (in), 2 IN- (in), 3 VDD (power), 4 ~{SD} (in), 5 VO1 (out), 6 GND (power), 7 PVDD (power), 8 VO2 (out), 9 DAP (power)

## LM4673TM
designator U?
Filterless, 2.65W, Mono, Class D Audio Power Amplifier, 9-pin Micro SMD; PartNumber: LM4673TM; Manufacturer: National Semiconductor; PackageTopMarking: XVG*I G4; PowerWise: Y; CompType: Audio IC; Published: 4-Dec-2008; DatasheetVersion: Nov-2007; PackageVersion: revA, May-2005; PackageReference: TMD09GGA; Publisher: Altium Limited; PackageDescription: Thin Micro SMD, 9 Bump, 0.4mm Pitch; Supplier 1: Farnell; Supplier Part Number 1: 1286897; RoHS: Y; PinCount: 9; ComponentLink1Description: LM4673 Datasheet; ComponentLink1URL: http://www.national.com/ds/LM/LM4673.pdf; ComponentLink2Description: LM4673 Web Page; ComponentLink2URL: http://www.national.com/pf/LM/LM4673.html; ComponentLink3Description: TMD09GGA Package Page; ComponentLink3URL: http://www.national.com/packaging/folders/tmd09gga.html
footprint TMD09GGA (Micro SMD, 9-Leads, Body 1.37x1.37mm, Pitch 0.4mm, NSC Recommended)
pins: A1 IN+ (in), A2 GND (power), A3 VO 1 (out), B1 VDD (power), B2 PVDD (power), B3 PGND (power), C1 IN- (in), C2 ~{SD} (in), C3 VO 2 (out)

## LM4673TM/NOPB
designator U?
Filterless, 2.65W, Mono, Class D Audio Power Amplifier, 9-pin Micro SMD, Pb-Free; PartNumber: LM4673TM/NOPB; Manufacturer: National Semiconductor; PackageTopMarking: XVG*I G4; PowerWise: Y; CompType: Audio IC; Published: 1-Mar-2010; DatasheetVersion: Nov-2007; PackageVersion: revA, May-2005; PackageReference: TMD09GGA; Publisher: Altium Limited; PackageDescription: Thin Micro SMD, 9 Bump, 0.4mm Pitch; Supplier 1: Digi-Key; Supplier Part Number 1: LM4673TMTR-ND; Supplier 2: Digi-Key; Supplier Part Number 2: LM4673TMCT-ND; Supplier 3: Digi-Key; Supplier Part Number 3: LM4673TMDKR-ND; RoHS: Y; PinCount: 9; ComponentLink1Description: LM4673 Datasheet; ComponentLink1URL: http://www.national.com/ds/LM/LM4673.pdf; ComponentLink2Description: LM4673 Web Page; ComponentLink2URL: http://www.national.com/pf/LM/LM4673.html; ComponentLink3Description: TMD09GGA Package Page; ComponentLink3URL: http://www.national.com/packaging/folders/tmd09gga.html
footprint TMD09GGA (Micro SMD, 9-Leads, Body 1.37x1.37mm, Pitch 0.4mm, NSC Recommended)
pins: A1 IN+ (in), A2 GND (power), A3 VO 1 (out), B1 VDD (power), B2 PVDD (power), B3 PGND (power), C1 IN- (in), C2 ~{SD} (in), C3 VO 2 (out)

## LM4673TMX/NOPB
designator U?
Filterless, 2.65W, Mono, Class D Audio Power Amplifier, 9-pin Micro SMD, Pb-Free; PartNumber: LM4673TMX/NOPB; Manufacturer: National Semiconductor; PackageTopMarking: XVG*I G4; PowerWise: Y; CompType: Audio IC; Published: 1-Mar-2010; DatasheetVersion: Nov-2007; PackageVersion: revA, May-2005; PackageReference: TMD09GGA; Publisher: Altium Limited; PackageDescription: Thin Micro SMD, 9 Bump, 0.4mm Pitch; Supplier 1: Digi-Key; Supplier Part Number 1: LM4673TMX-ND; RoHS: Y; PinCount: 9; ComponentLink1Description: LM4673 Datasheet; ComponentLink1URL: http://www.national.com/ds/LM/LM4673.pdf; ComponentLink2Description: LM4673 Web Page; ComponentLink2URL: http://www.national.com/pf/LM/LM4673.html; ComponentLink3Description: TMD09GGA Package Page; ComponentLink3URL: http://www.national.com/packaging/folders/tmd09gga.html
footprint TMD09GGA (Micro SMD, 9-Leads, Body 1.37x1.37mm, Pitch 0.4mm, NSC Recommended)
pins: A1 IN+ (in), A2 GND (power), A3 VO 1 (out), B1 VDD (power), B2 PVDD (power), B3 PGND (power), C1 IN- (in), C2 ~{SD} (in), C3 VO 2 (out)

## LM4674ATL
designator U?
Filterless 2.5 Stereo Class D Audio Power Amplifier, 16-pin Micro SMD; PartNumber: LM4674ATL; Manufacturer: National Semiconductor; PackageTopMarking: XYTT*I GI2; PowerWise: Y; CompType: Audio IC; Published: 4-Dec-2008; DatasheetVersion: Sep-2006; PackageVersion: revC, Jan-2004; PackageReference: TLA1611A; Publisher: Altium Limited; PackageDescription: Thin Micro SMD, 16 Bump (Large), 0.5mm Pitch; RoHS: Y; PinCount: 16; Code_JEDEC: MO-211-DF; ComponentLink1Description: LM4674A Datasheet; ComponentLink1URL: http://www.national.com/ds/LM/LM4674A.pdf; ComponentLink2Description: LM4674A Web Page; ComponentLink2URL: http://www.national.com/pf/LM/LM4674A.html; ComponentLink3Description: TLA1611A Package Page; ComponentLink3URL: http://www.national.com/packaging/folders/tla1611a.html
footprint TLA1611A (Micro SMD, 16-Leads, Body 1.97x1.97mm, Pitch 0.5mm, NSC Recommended)
pins: A1 INL+ (in), A2 PVDD (power), A3 OUTLA (out), A4 OUTLB (out), B1 INL- (in), B2 G1 (in), B3 ~{SDR} (in), B4 ~{SDL} (in), C1 INR- (in), C2 G0 (in), C3 GND (power), C4 PGND (power), D1 INR+ (in), D2 VDD (power), D3 OUTRA (out), D4 OUTRB (out)

## LM4674ATL/NOPB
designator U?
Filterless 2.5 Stereo Class D Audio Power Amplifier, 16-pin Micro SMD, Pb-Free; PartNumber: LM4674ATL/NOPB; Manufacturer: National Semiconductor; PackageTopMarking: XYTT*I GI2; PowerWise: Y; CompType: Audio IC; Published: 1-Mar-2010; DatasheetVersion: Sep-2006; PackageVersion: revC, Jan-2004; PackageReference: TLA1611A; Publisher: Altium Limited; PackageDescription: Thin Micro SMD, 16 Bump (Large), 0.5mm Pitch; Supplier 1: Digi-Key; Supplier Part Number 1: LM4674ATLTR-ND; Supplier 2: Digi-Key; Supplier Part Number 2: LM4674ATLCT-ND; Supplier 3: Digi-Key; Supplier Part Number 3: LM4674ATLDKR-ND; RoHS: Y; PinCount: 16; Code_JEDEC: MO-211-DF; ComponentLink1Description: LM4674A Datasheet; ComponentLink1URL: http://www.national.com/ds/LM/LM4674A.pdf; ComponentLink2Description: LM4674A Web Page; ComponentLink2URL: http://www.national.com/pf/LM/LM4674A.html; ComponentLink3Description: TLA1611A Package Page; ComponentLink3URL: http://www.national.com/packaging/folders/tla1611a.html
footprint TLA1611A (Micro SMD, 16-Leads, Body 1.97x1.97mm, Pitch 0.5mm, NSC Recommended)
pins: A1 INL+ (in), A2 PVDD (power), A3 OUTLA (out), A4 OUTLB (out), B1 INL- (in), B2 G1 (in), B3 ~{SDR} (in), B4 ~{SDL} (in), C1 INR- (in), C2 G0 (in), C3 GND (power), C4 PGND (power), D1 INR+ (in), D2 VDD (power), D3 OUTRA (out), D4 OUTRB (out)

## LM4674ATLX/NOPB
designator U?
Filterless 2.5 Stereo Class D Audio Power Amplifier, 16-pin Micro SMD, Pb-Free; PartNumber: LM4674ATLX/NOPB; Manufacturer: National Semiconductor; PackageTopMarking: XYTT*I GI2; PowerWise: Y; CompType: Audio IC; Published: 1-Mar-2010; DatasheetVersion: Sep-2006; PackageVersion: revC, Jan-2004; PackageReference: TLA1611A; Publisher: Altium Limited; PackageDescription: Thin Micro SMD, 16 Bump (Large), 0.5mm Pitch; Supplier 1: Digi-Key; Supplier Part Number 1: LM4674ATLX-ND; RoHS: Y; PinCount: 16; Code_JEDEC: MO-211-DF; ComponentLink1Description: LM4674A Datasheet; ComponentLink1URL: http://www.national.com/ds/LM/LM4674A.pdf; ComponentLink2Description: LM4674A Web Page; ComponentLink2URL: http://www.national.com/pf/LM/LM4674A.html; ComponentLink3Description: TLA1611A Package Page; ComponentLink3URL: http://www.national.com/packaging/folders/tla1611a.html
footprint TLA1611A (Micro SMD, 16-Leads, Body 1.97x1.97mm, Pitch 0.5mm, NSC Recommended)
pins: A1 INL+ (in), A2 PVDD (power), A3 OUTLA (out), A4 OUTLB (out), B1 INL- (in), B2 G1 (in), B3 ~{SDR} (in), B4 ~{SDL} (in), C1 INR- (in), C2 G0 (in), C3 GND (power), C4 PGND (power), D1 INR+ (in), D2 VDD (power), D3 OUTRA (out), D4 OUTRB (out)

## LM4674SQ
designator U?
Filterless 2.5 Stereo Class D Audio Power Amplifier, 17-pin LLP; PartNumber: LM4674SQ; Manufacturer: National Semiconductor; PackageTopMarking: NS*UZXYTT*L4674SQ; PowerWise: N; CompType: Audio IC; Published: 4-Dec-2008; DatasheetVersion: Jul-2008; PackageVersion: revA, Oct-2003; PackageReference: SQA16A; Publisher: Altium Limited; PackageDescription: LLP, Plastic, Quad, 4 x 4 x 0.8mm Body, 16 Lead, 0.5mm Pitch, No Pullback; RoHS: Y; PinCount: 16; ComponentLink1Description: LM4674 Datasheet; ComponentLink1URL: http://www.national.com/ds/LM/LM4674.pdf; ComponentLink2Description: LM4674 Web Page; ComponentLink2URL: http://www.national.com/pf/LM/LM4674.html; ComponentLink3Description: SQA16A Package Page; ComponentLink3URL: http://www.national.com/packaging/folders/sqa16a.html
footprint SQA16A (QFN, 16-Leads, Body 4x4mm, Pitch 0.5mm, NSC Recommended)
pins: 1 INR+ (in), 2 INR- (in), 3 INL- (in), 4 INL+ (in), 5 G1 (in), 6 PVDD (power), 7 OUTLA (out), 8 OUTLB (out), 9 ~{SDL} (in), 10 ~{SDR} (in), 11 PGND (power), 12 GND (power), 13 OUTRB (out), 14 OUTRA (out), 15 VDD (power), 16 G0 (in), 17 DAP (power)

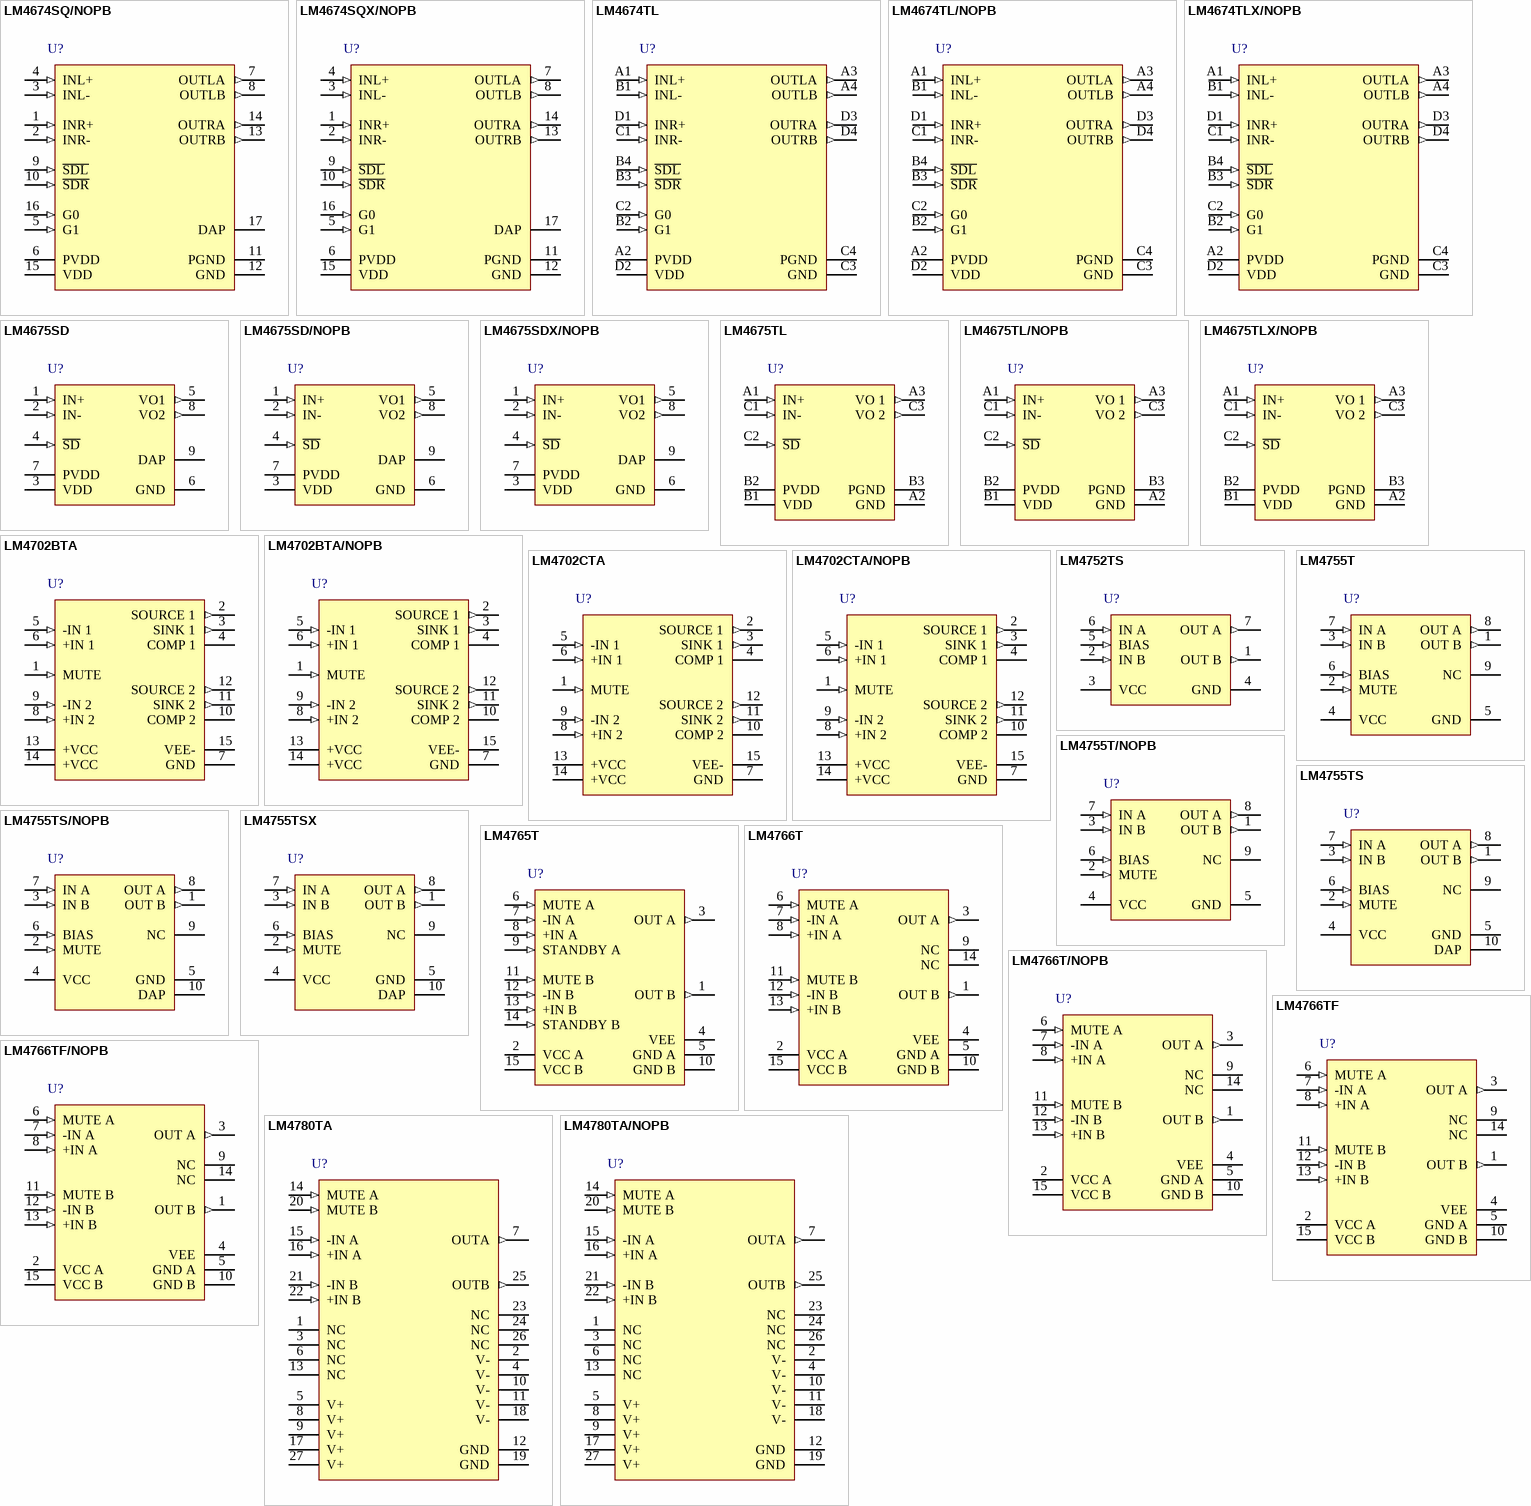
[diagram p4: symbols LM4674SQ/NOPB to LM4780TA/NOPB]

## LM4674SQ/NOPB
designator U?
Filterless 2.5 Stereo Class D Audio Power Amplifier, 16-pin LLP, Pb-Free; PartNumber: LM4674SQ/NOPB; Manufacturer: National Semiconductor; PackageTopMarking: NS*UZXYTT*L4674SQ; PowerWise: N; CompType: Audio IC; Published: 1-Mar-2010; DatasheetVersion: Jul-2008; PackageVersion: revA, Oct-2003; PackageReference: SQA16A; Publisher: Altium Limited; PackageDescription: LLP, Plastic, Quad, 4 x 4 x 0.8mm Body, 16 Lead, 0.5mm Pitch, No Pullback; Supplier 1: Digi-Key; Supplier Part Number 1: LM4674SQTR-ND; Supplier 2: Digi-Key; Supplier Part Number 2: LM4674SQCT-ND; Supplier 3: Digi-Key; Supplier Part Number 3: LM4674SQDKR-ND; Supplier 4: Farnell; Supplier Part Number 4: 1685324; RoHS: Y; PinCount: 16; ComponentLink1Description: LM4674 Datasheet; ComponentLink1URL: http://www.national.com/ds/LM/LM4674.pdf; ComponentLink2Description: LM4674 Web Page; ComponentLink2URL: http://www.national.com/pf/LM/LM4674.html; ComponentLink3Description: SQA16A Package Page; ComponentLink3URL: http://www.national.com/packaging/folders/sqa16a.html
footprint SQA16A (QFN, 16-Leads, Body 4x4mm, Pitch 0.5mm, NSC Recommended)
pins: 1 INR+ (in), 2 INR- (in), 3 INL- (in), 4 INL+ (in), 5 G1 (in), 6 PVDD (power), 7 OUTLA (out), 8 OUTLB (out), 9 ~{SDL} (in), 10 ~{SDR} (in), 11 PGND (power), 12 GND (power), 13 OUTRB (out), 14 OUTRA (out), 15 VDD (power), 16 G0 (in), 17 DAP (power)

## LM4674SQX/NOPB
designator U?
Filterless 2.5 Stereo Class D Audio Power Amplifier, 16-pin LLP, Pb-Free; PartNumber: LM4674SQX/NOPB; Manufacturer: National Semiconductor; PackageTopMarking: NS*UZXYTT*L4674SQ; PowerWise: N; CompType: Audio IC; Published: 1-Mar-2010; DatasheetVersion: Jul-2008; PackageVersion: revA, Oct-2003; PackageReference: SQA16A; Publisher: Altium Limited; PackageDescription: LLP, Plastic, Quad, 4 x 4 x 0.8mm Body, 16 Lead, 0.5mm Pitch, No Pullback; Supplier 1: Digi-Key; Supplier Part Number 1: LM4674SQX-ND; RoHS: Y; PinCount: 16; ComponentLink1Description: LM4674 Datasheet; ComponentLink1URL: http://www.national.com/ds/LM/LM4674.pdf; ComponentLink2Description: LM4674 Web Page; ComponentLink2URL: http://www.national.com/pf/LM/LM4674.html; ComponentLink3Description: SQA16A Package Page; ComponentLink3URL: http://www.national.com/packaging/folders/sqa16a.html
footprint SQA16A (QFN, 16-Leads, Body 4x4mm, Pitch 0.5mm, NSC Recommended)
pins: 1 INR+ (in), 2 INR- (in), 3 INL- (in), 4 INL+ (in), 5 G1 (in), 6 PVDD (power), 7 OUTLA (out), 8 OUTLB (out), 9 ~{SDL} (in), 10 ~{SDR} (in), 11 PGND (power), 12 GND (power), 13 OUTRB (out), 14 OUTRA (out), 15 VDD (power), 16 G0 (in), 17 DAP (power)

## LM4674TL
designator U?
Filterless 2.5 Stereo Class D Audio Power Amplifier, 16-pin Micro SMD; PartNumber: LM4674TL; Manufacturer: National Semiconductor; PackageTopMarking: XYTT*I GG2; PowerWise: N; CompType: Audio IC; Published: 4-Dec-2008; DatasheetVersion: Jul-2008; PackageVersion: revC, Jan-2004; PackageReference: TLA1611A; Publisher: Altium Limited; PackageDescription: Thin Micro SMD, 16 Bump (Large), 0.5mm Pitch; RoHS: Y; PinCount: 16; Code_JEDEC: MO-211-DF; ComponentLink1Description: LM4674 Datasheet; ComponentLink1URL: http://www.national.com/ds/LM/LM4674.pdf; ComponentLink2Description: LM4674 Web Page; ComponentLink2URL: http://www.national.com/pf/LM/LM4674.html; ComponentLink3Description: TLA1611A Package Page; ComponentLink3URL: http://www.national.com/packaging/folders/tla1611a.html
footprint TLA1611A (Micro SMD, 16-Leads, Body 1.97x1.97mm, Pitch 0.5mm, NSC Recommended)
pins: A1 INL+ (in), A2 PVDD (power), A3 OUTLA (out), A4 OUTLB (out), B1 INL- (in), B2 G1 (in), B3 ~{SDR} (in), B4 ~{SDL} (in), C1 INR- (in), C2 G0 (in), C3 GND (power), C4 PGND (power), D1 INR+ (in), D2 VDD (power), D3 OUTRA (out), D4 OUTRB (out)

## LM4674TL/NOPB
designator U?
Filterless 2.5 Stereo Class D Audio Power Amplifier, 16-pin Micro SMD, Pb-Free; PartNumber: LM4674TL/NOPB; Manufacturer: National Semiconductor; PackageTopMarking: XYTT*I GG2; PowerWise: N; CompType: Audio IC; Published: 1-Mar-2010; DatasheetVersion: Jul-2008; PackageVersion: revC, Jan-2004; PackageReference: TLA1611A; Publisher: Altium Limited; PackageDescription: Thin Micro SMD, 16 Bump (Large), 0.5mm Pitch; Supplier 1: Digi-Key; Supplier Part Number 1: LM4674TLTR-ND; Supplier 2: Digi-Key; Supplier Part Number 2: LM4674TLCT-ND; Supplier 3: Digi-Key; Supplier Part Number 3: LM4674TLDKR-ND; RoHS: Y; PinCount: 16; Code_JEDEC: MO-211-DF; ComponentLink1Description: LM4674 Datasheet; ComponentLink1URL: http://www.national.com/ds/LM/LM4674.pdf; ComponentLink2Description: LM4674 Web Page; ComponentLink2URL: http://www.national.com/pf/LM/LM4674.html; ComponentLink3Description: TLA1611A Package Page; ComponentLink3URL: http://www.national.com/packaging/folders/tla1611a.html
footprint TLA1611A (Micro SMD, 16-Leads, Body 1.97x1.97mm, Pitch 0.5mm, NSC Recommended)
pins: A1 INL+ (in), A2 PVDD (power), A3 OUTLA (out), A4 OUTLB (out), B1 INL- (in), B2 G1 (in), B3 ~{SDR} (in), B4 ~{SDL} (in), C1 INR- (in), C2 G0 (in), C3 GND (power), C4 PGND (power), D1 INR+ (in), D2 VDD (power), D3 OUTRA (out), D4 OUTRB (out)

## LM4674TLX/NOPB
designator U?
Filterless 2.5 Stereo Class D Audio Power Amplifier, 16-pin Micro SMD, Pb-Free; PartNumber: LM4674TLX/NOPB; Manufacturer: National Semiconductor; PackageTopMarking: XYTT*I GG2; PowerWise: N; CompType: Audio IC; Published: 1-Mar-2010; DatasheetVersion: Jul-2008; PackageVersion: revC, Jan-2004; PackageReference: TLA1611A; Publisher: Altium Limited; PackageDescription: Thin Micro SMD, 16 Bump (Large), 0.5mm Pitch; Supplier 1: Digi-Key; Supplier Part Number 1: LM4674TLX-ND; RoHS: Y; PinCount: 16; Code_JEDEC: MO-211-DF; ComponentLink1Description: LM4674 Datasheet; ComponentLink1URL: http://www.national.com/ds/LM/LM4674.pdf; ComponentLink2Description: LM4674 Web Page; ComponentLink2URL: http://www.national.com/pf/LM/LM4674.html; ComponentLink3Description: TLA1611A Package Page; ComponentLink3URL: http://www.national.com/packaging/folders/tla1611a.html
footprint TLA1611A (Micro SMD, 16-Leads, Body 1.97x1.97mm, Pitch 0.5mm, NSC Recommended)
pins: A1 INL+ (in), A2 PVDD (power), A3 OUTLA (out), A4 OUTLB (out), B1 INL- (in), B2 G1 (in), B3 ~{SDR} (in), B4 ~{SDL} (in), C1 INR- (in), C2 G0 (in), C3 GND (power), C4 PGND (power), D1 INR+ (in), D2 VDD (power), D3 OUTRA (out), D4 OUTRB (out)